# EAGLE library part MPU9250 (library wntrmute)
Sparkfun MPU-9250 breakout.
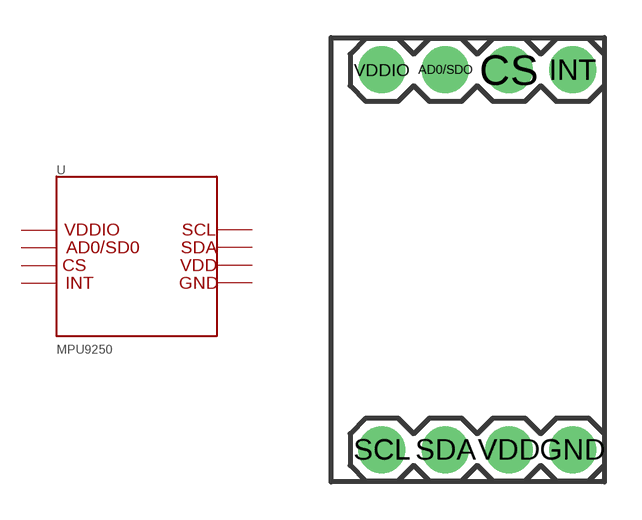
[diagram p0: symbol with the pads of MPU9250; footprint MPU9250]

Designator prefix U

## MPU9250BREAKOUT  [MPU9250]
AD0/SDO  AD0_SDO
CS  CS
GND  GND  pwr
INT  INT  out
SCL  SCL
SDA  SDA
VDD  VDD  pwr
VDDIO  VDDIO  pwr

## Footprint MPU9250 (pad centres in mm)
Plated Through Hole - 4 Pin Specifications: Pin count:4 Pin pitch:0.1" Example device(s): CONN_04
drill 1.016 pad 1.88: AD0/SDO 4.572,16.485; CS 7.112,16.485; GND 9.652,1.295; INT 9.652,16.485; SCL 2.032,1.295; SDA 4.572,1.295; VDD 7.112,1.295; VDDIO 2.032,16.485